# Altium footprint library Connector_Phoenix_MC.PcbLib: 180 footprints (part 2 of 12)
Each footprint in its own frame and in the unit in brackets; x right, y up, seen from the top. Pads: shape width x height; smd on the part's side, far side on the other; paste and mask are expansions set on the pad; w line width, h text height; cw(c..) or ccw(c..) is an arc to the next point about the centre after c.
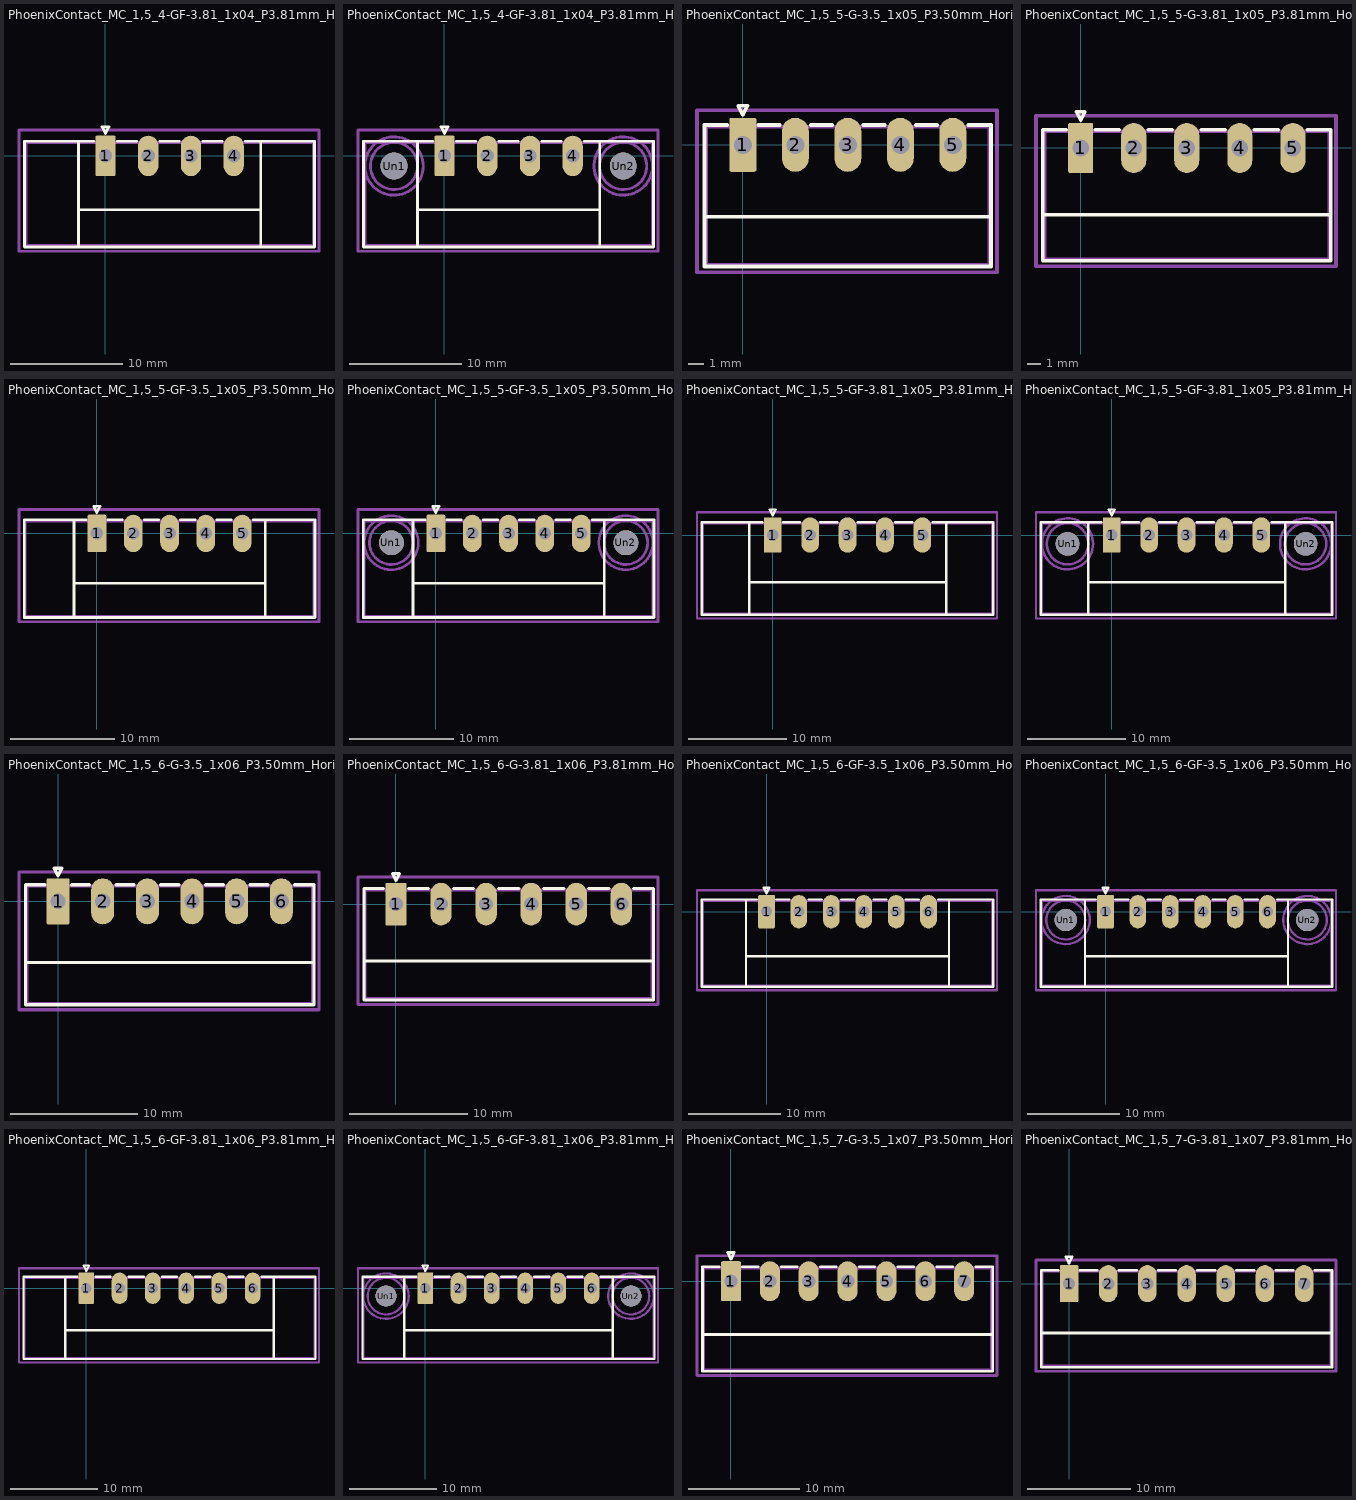
[diagram p1: the footprints below, top view; thin cyan lines are the x and y axes]

## PhoenixContact_MC_1,5_4-GF-3.81_1x04_P3.81mm_Horizontal_ThreadedFlange [mm]
pads (4):
  rrect14% 1.8x3.6 hole 1.2: 1(0,0)
  rrect100% 1.8x3.6 hole 1.2: 2(3.81,0) 3(7.62,0) 4(11.43,0)
F.SilkS:
  lines w0.254: -2.41,-8.11 -2.41,1.31 ; -2.41,-4.8 13.84,-4.8 ; -1.05,1.31 -7.21,1.31 -7.21,-8.11 18.64,-8.11 18.64,1.31 12.48,1.31 ; 1.05,1.31 2.76,1.31 ; 4.86,1.31 6.57,1.31 ; 8.67,1.31 10.38,1.31 ; 13.84,-8.11 13.84,1.31 ; -0.3,2.6 0,2 0.3,2.6 -0.3,2.6
Top Assembly:
  lines w0.254: -0.8,1.2 0,0 0.8,1.2 ; -7.1,-8 18.53,-8 18.53,1.2 -7.1,1.2 -7.1,-8
  text "'.Designator'" at 1.673,-0.34 h1
Top Courtyard:
  lines w0.254: -7.71,-8.5 19.03,-8.5 19.03,2.3 -7.71,2.3 -7.71,-8.5
Top Designator:
  text ".Designator" at -1.958,-3.458 h1.52

## PhoenixContact_MC_1,5_4-GF-3.81_1x04_P3.81mm_Horizontal_ThreadedFlange_MountHole [mm]
pads (6):
  rrect14% 1.8x3.6 hole 1.2: 1(0,0)
  rrect100% 1.8x3.6 hole 1.2: 2(3.81,0) 3(7.62,0) 4(11.43,0)
  round 2.4 hole 2.4: Un1(-4.5,-0.9) Un2(15.93,-0.9)
F.SilkS:
  lines w0.254: -2.41,-8.11 -2.41,1.31 ; -2.41,-4.8 13.84,-4.8 ; -1.05,1.31 -7.21,1.31 -7.21,-8.11 18.64,-8.11 18.64,1.31 12.48,1.31 ; 1.05,1.31 2.76,1.31 ; 4.86,1.31 6.57,1.31 ; 8.67,1.31 10.38,1.31 ; 13.84,-8.11 13.84,1.31 ; -0.3,2.6 0,2 0.3,2.6 -0.3,2.6
B.SilkS:
  circle w0.254: c15.93,-0.9 r2.21
  circle w0.254: c-4.5,-0.9 r2.21
Top Assembly:
  lines w0.254: -0.8,1.2 0,0 0.8,1.2 ; -7.1,-8 18.53,-8 18.53,1.2 -7.1,1.2 -7.1,-8
  text "'.Designator'" at 1.673,-0.34 h1
Bottom Assembly:
  circle w0.254: c15.93,-0.9 r2.1
  circle w0.254: c-4.5,-0.9 r2.1
Top Courtyard:
  lines w0.254: -7.71,-8.5 19.03,-8.5 19.03,2.3 -7.71,2.3 -7.71,-8.5
Bottom Courtyard:
  circle w0.254: c15.93,-0.9 r2.6
  circle w0.254: c-4.5,-0.9 r2.6
Top Designator:
  text ".Designator" at -1.958,-3.458 h1.52

## PhoenixContact_MC_1,5_5-G-3.5_1x05_P3.50mm_Horizontal [mm]
pads (5):
  rrect14% 1.8x3.6 hole 1.2: 1(0,0)
  rrect100% 1.8x3.6 hole 1.2: 2(3.5,0) 3(7,0) 4(10.5,0) 5(14,0)
F.SilkS:
  lines w0.254: -2.56,-4.8 16.56,-4.8 ; -1.05,1.31 -2.56,1.31 -2.56,-8.11 16.56,-8.11 16.56,1.31 15.05,1.31 ; 1.05,1.31 2.45,1.31 ; 4.55,1.31 5.95,1.31 ; 8.05,1.31 9.45,1.31 ; 11.55,1.31 12.95,1.31 ; -0.3,2.6 0,2 0.3,2.6 -0.3,2.6
Top Assembly:
  lines w0.254: -0.8,1.2 0,0 0.8,1.2 ; -2.45,-8 16.45,-8 16.45,1.2 -2.45,1.2 -2.45,-8
  text "'.Designator'" at 2.953,-0.34 h1
Top Courtyard:
  lines w0.254: -3.06,-8.5 16.95,-8.5 16.95,2.3 -3.06,2.3 -3.06,-8.5
Top Designator:
  text ".Designator" at -0.673,-3.458 h1.52

## PhoenixContact_MC_1,5_5-G-3.81_1x05_P3.81mm_Horizontal [mm]
pads (5):
  rrect14% 1.8x3.6 hole 1.2: 1(0,0)
  rrect100% 1.8x3.6 hole 1.2: 2(3.81,0) 3(7.62,0) 4(11.43,0) 5(15.24,0)
F.SilkS:
  lines w0.254: -2.71,-4.8 17.95,-4.8 ; -1.05,1.31 -2.71,1.31 -2.71,-8.11 17.95,-8.11 17.95,1.31 16.29,1.31 ; 1.05,1.31 2.76,1.31 ; 4.86,1.31 6.57,1.31 ; 8.67,1.31 10.38,1.31 ; 12.48,1.31 14.19,1.31 ; -0.3,2.6 0,2 0.3,2.6 -0.3,2.6
Top Assembly:
  lines w0.254: -0.8,1.2 0,0 0.8,1.2 ; -2.6,-8 17.84,-8 17.84,1.2 -2.6,1.2 -2.6,-8
  text "'.Designator'" at 3.573,-0.34 h1
Top Courtyard:
  lines w0.254: -3.21,-8.5 18.34,-8.5 18.34,2.3 -3.21,2.3 -3.21,-8.5
Top Designator:
  text ".Designator" at -0.053,-3.458 h1.52

## PhoenixContact_MC_1,5_5-GF-3.5_1x05_P3.50mm_Horizontal_ThreadedFlange [mm]
pads (5):
  rrect14% 1.8x3.6 hole 1.2: 1(0,0)
  rrect100% 1.8x3.6 hole 1.2: 2(3.5,0) 3(7,0) 4(10.5,0) 5(14,0)
F.SilkS:
  lines w0.254: -2.21,-8.11 -2.21,1.31 ; -2.21,-4.8 16.21,-4.8 ; -1.05,1.31 -7.01,1.31 -7.01,-8.11 21.01,-8.11 21.01,1.31 15.05,1.31 ; 1.05,1.31 2.45,1.31 ; 4.55,1.31 5.95,1.31 ; 8.05,1.31 9.45,1.31 ; 11.55,1.31 12.95,1.31 ; 16.21,-8.11 16.21,1.31 ; -0.3,2.6 0,2 0.3,2.6 -0.3,2.6
Top Assembly:
  lines w0.254: -0.8,1.2 0,0 0.8,1.2 ; -6.9,-8 20.9,-8 20.9,1.2 -6.9,1.2 -6.9,-8
  text "'.Designator'" at 2.953,-0.34 h1
Top Courtyard:
  lines w0.254: -7.51,-8.5 21.4,-8.5 21.4,2.3 -7.51,2.3 -7.51,-8.5
Top Designator:
  text ".Designator" at -0.673,-3.458 h1.52

## PhoenixContact_MC_1,5_5-GF-3.5_1x05_P3.50mm_Horizontal_ThreadedFlange_MountHole [mm]
pads (7):
  rrect14% 1.8x3.6 hole 1.2: 1(0,0)
  rrect100% 1.8x3.6 hole 1.2: 2(3.5,0) 3(7,0) 4(10.5,0) 5(14,0)
  round 2.4 hole 2.4: Un1(-4.3,-0.9) Un2(18.3,-0.9)
F.SilkS:
  lines w0.254: -2.21,-8.11 -2.21,1.31 ; -2.21,-4.8 16.21,-4.8 ; -1.05,1.31 -7.01,1.31 -7.01,-8.11 21.01,-8.11 21.01,1.31 15.05,1.31 ; 1.05,1.31 2.45,1.31 ; 4.55,1.31 5.95,1.31 ; 8.05,1.31 9.45,1.31 ; 11.55,1.31 12.95,1.31 ; 16.21,-8.11 16.21,1.31 ; -0.3,2.6 0,2 0.3,2.6 -0.3,2.6
B.SilkS:
  circle w0.254: c18.3,-0.9 r2.21
  circle w0.254: c-4.3,-0.9 r2.21
Top Assembly:
  lines w0.254: -0.8,1.2 0,0 0.8,1.2 ; -6.9,-8 20.9,-8 20.9,1.2 -6.9,1.2 -6.9,-8
  text "'.Designator'" at 2.953,-0.34 h1
Bottom Assembly:
  circle w0.254: c18.3,-0.9 r2.1
  circle w0.254: c-4.3,-0.9 r2.1
Top Courtyard:
  lines w0.254: -7.51,-8.5 21.4,-8.5 21.4,2.3 -7.51,2.3 -7.51,-8.5
Bottom Courtyard:
  circle w0.254: c18.3,-0.9 r2.6
  circle w0.254: c-4.3,-0.9 r2.6
Top Designator:
  text ".Designator" at -0.673,-3.458 h1.52

## PhoenixContact_MC_1,5_5-GF-3.81_1x05_P3.81mm_Horizontal_ThreadedFlange [mm]
pads (5):
  rrect14% 1.8x3.6 hole 1.2: 1(0,0)
  rrect100% 1.8x3.6 hole 1.2: 2(3.81,0) 3(7.62,0) 4(11.43,0) 5(15.24,0)
F.SilkS:
  lines w0.254: -2.41,-8.11 -2.41,1.31 ; -2.41,-4.8 17.65,-4.8 ; -1.05,1.31 -7.21,1.31 -7.21,-8.11 22.45,-8.11 22.45,1.31 16.29,1.31 ; 1.05,1.31 2.76,1.31 ; 4.86,1.31 6.57,1.31 ; 8.67,1.31 10.38,1.31 ; 12.48,1.31 14.19,1.31 ; 17.65,-8.11 17.65,1.31 ; -0.3,2.6 0,2 0.3,2.6 -0.3,2.6
Top Assembly:
  lines w0.254: -0.8,1.2 0,0 0.8,1.2 ; -7.1,-8 22.34,-8 22.34,1.2 -7.1,1.2 -7.1,-8
  text "'.Designator'" at 3.573,-0.34 h1
Top Courtyard:
  lines w0.254: -7.71,-8.5 22.84,-8.5 22.84,2.3 -7.71,2.3 -7.71,-8.5
Top Designator:
  text ".Designator" at -0.053,-3.458 h1.52

## PhoenixContact_MC_1,5_5-GF-3.81_1x05_P3.81mm_Horizontal_ThreadedFlange_MountHole [mm]
pads (7):
  rrect14% 1.8x3.6 hole 1.2: 1(0,0)
  rrect100% 1.8x3.6 hole 1.2: 2(3.81,0) 3(7.62,0) 4(11.43,0) 5(15.24,0)
  round 2.4 hole 2.4: Un1(-4.5,-0.9) Un2(19.74,-0.9)
F.SilkS:
  lines w0.254: -2.41,-8.11 -2.41,1.31 ; -2.41,-4.8 17.65,-4.8 ; -1.05,1.31 -7.21,1.31 -7.21,-8.11 22.45,-8.11 22.45,1.31 16.29,1.31 ; 1.05,1.31 2.76,1.31 ; 4.86,1.31 6.57,1.31 ; 8.67,1.31 10.38,1.31 ; 12.48,1.31 14.19,1.31 ; 17.65,-8.11 17.65,1.31 ; -0.3,2.6 0,2 0.3,2.6 -0.3,2.6
B.SilkS:
  circle w0.254: c19.74,-0.9 r2.21
  circle w0.254: c-4.5,-0.9 r2.21
Top Assembly:
  lines w0.254: -0.8,1.2 0,0 0.8,1.2 ; -7.1,-8 22.34,-8 22.34,1.2 -7.1,1.2 -7.1,-8
  text "'.Designator'" at 3.573,-0.34 h1
Bottom Assembly:
  circle w0.254: c19.74,-0.9 r2.1
  circle w0.254: c-4.5,-0.9 r2.1
Top Courtyard:
  lines w0.254: -7.71,-8.5 22.84,-8.5 22.84,2.3 -7.71,2.3 -7.71,-8.5
Bottom Courtyard:
  circle w0.254: c19.74,-0.9 r2.6
  circle w0.254: c-4.5,-0.9 r2.6
Top Designator:
  text ".Designator" at -0.053,-3.458 h1.52

## PhoenixContact_MC_1,5_6-G-3.5_1x06_P3.50mm_Horizontal [mm]
pads (6):
  rrect14% 1.8x3.6 hole 1.2: 1(0,0)
  rrect100% 1.8x3.6 hole 1.2: 2(3.5,0) 3(7,0) 4(10.5,0) 5(14,0) 6(17.5,0)
F.SilkS:
  lines w0.254: -2.56,-4.8 20.06,-4.8 ; -1.05,1.31 -2.56,1.31 -2.56,-8.11 20.06,-8.11 20.06,1.31 18.55,1.31 ; 1.05,1.31 2.45,1.31 ; 4.55,1.31 5.95,1.31 ; 8.05,1.31 9.45,1.31 ; 11.55,1.31 12.95,1.31 ; 15.05,1.31 16.45,1.31 ; -0.3,2.6 0,2 0.3,2.6 -0.3,2.6
Top Assembly:
  lines w0.254: -0.8,1.2 0,0 0.8,1.2 ; -2.45,-8 19.95,-8 19.95,1.2 -2.45,1.2 -2.45,-8
  text "'.Designator'" at 4.703,-0.34 h1
Top Courtyard:
  lines w0.254: -3.06,-8.5 20.45,-8.5 20.45,2.3 -3.06,2.3 -3.06,-8.5
Top Designator:
  text ".Designator" at 1.077,-3.458 h1.52

## PhoenixContact_MC_1,5_6-G-3.81_1x06_P3.81mm_Horizontal [mm]
pads (6):
  rrect14% 1.8x3.6 hole 1.2: 1(0,0)
  rrect100% 1.8x3.6 hole 1.2: 2(3.81,0) 3(7.62,0) 4(11.43,0) 5(15.24,0) 6(19.05,0)
F.SilkS:
  lines w0.254: -2.71,-4.8 21.76,-4.8 ; -1.05,1.31 -2.71,1.31 -2.71,-8.11 21.76,-8.11 21.76,1.31 20.1,1.31 ; 1.05,1.31 2.76,1.31 ; 4.86,1.31 6.57,1.31 ; 8.67,1.31 10.38,1.31 ; 12.48,1.31 14.19,1.31 ; 16.29,1.31 18,1.31 ; -0.3,2.6 0,2 0.3,2.6 -0.3,2.6
Top Assembly:
  lines w0.254: -0.8,1.2 0,0 0.8,1.2 ; -2.6,-8 21.65,-8 21.65,1.2 -2.6,1.2 -2.6,-8
  text "'.Designator'" at 5.473,-0.34 h1
Top Courtyard:
  lines w0.254: -3.21,-8.5 22.15,-8.5 22.15,2.3 -3.21,2.3 -3.21,-8.5
Top Designator:
  text ".Designator" at 1.852,-3.458 h1.52

## PhoenixContact_MC_1,5_6-GF-3.5_1x06_P3.50mm_Horizontal_ThreadedFlange [mm]
pads (6):
  rrect14% 1.8x3.6 hole 1.2: 1(0,0)
  rrect100% 1.8x3.6 hole 1.2: 2(3.5,0) 3(7,0) 4(10.5,0) 5(14,0) 6(17.5,0)
F.SilkS:
  lines w0.254: -2.21,-8.11 -2.21,1.31 ; -2.21,-4.8 19.71,-4.8 ; -1.05,1.31 -7.01,1.31 -7.01,-8.11 24.51,-8.11 24.51,1.31 18.55,1.31 ; 1.05,1.31 2.45,1.31 ; 4.55,1.31 5.95,1.31 ; 8.05,1.31 9.45,1.31 ; 11.55,1.31 12.95,1.31 ; 15.05,1.31 16.45,1.31 ; 19.71,-8.11 19.71,1.31 ; -0.3,2.6 0,2 0.3,2.6 -0.3,2.6
Top Assembly:
  lines w0.254: -0.8,1.2 0,0 0.8,1.2 ; -6.9,-8 24.4,-8 24.4,1.2 -6.9,1.2 -6.9,-8
  text "'.Designator'" at 4.703,-0.34 h1
Top Courtyard:
  lines w0.254: -7.51,-8.5 24.9,-8.5 24.9,2.3 -7.51,2.3 -7.51,-8.5
Top Designator:
  text ".Designator" at 1.077,-3.458 h1.52

## PhoenixContact_MC_1,5_6-GF-3.5_1x06_P3.50mm_Horizontal_ThreadedFlange_MountHole [mm]
pads (8):
  rrect14% 1.8x3.6 hole 1.2: 1(0,0)
  rrect100% 1.8x3.6 hole 1.2: 2(3.5,0) 3(7,0) 4(10.5,0) 5(14,0) 6(17.5,0)
  round 2.4 hole 2.4: Un1(-4.3,-0.9) Un2(21.8,-0.9)
F.SilkS:
  lines w0.254: -2.21,-8.11 -2.21,1.31 ; -2.21,-4.8 19.71,-4.8 ; -1.05,1.31 -7.01,1.31 -7.01,-8.11 24.51,-8.11 24.51,1.31 18.55,1.31 ; 1.05,1.31 2.45,1.31 ; 4.55,1.31 5.95,1.31 ; 8.05,1.31 9.45,1.31 ; 11.55,1.31 12.95,1.31 ; 15.05,1.31 16.45,1.31 ; 19.71,-8.11 19.71,1.31 ; -0.3,2.6 0,2 0.3,2.6 -0.3,2.6
B.SilkS:
  circle w0.254: c21.8,-0.9 r2.21
  circle w0.254: c-4.3,-0.9 r2.21
Top Assembly:
  lines w0.254: -0.8,1.2 0,0 0.8,1.2 ; -6.9,-8 24.4,-8 24.4,1.2 -6.9,1.2 -6.9,-8
  text "'.Designator'" at 4.703,-0.34 h1
Bottom Assembly:
  circle w0.254: c21.8,-0.9 r2.1
  circle w0.254: c-4.3,-0.9 r2.1
Top Courtyard:
  lines w0.254: -7.51,-8.5 24.9,-8.5 24.9,2.3 -7.51,2.3 -7.51,-8.5
Bottom Courtyard:
  circle w0.254: c21.8,-0.9 r2.6
  circle w0.254: c-4.3,-0.9 r2.6
Top Designator:
  text ".Designator" at 1.077,-3.458 h1.52

## PhoenixContact_MC_1,5_6-GF-3.81_1x06_P3.81mm_Horizontal_ThreadedFlange [mm]
pads (6):
  rrect14% 1.8x3.6 hole 1.2: 1(0,0)
  rrect100% 1.8x3.6 hole 1.2: 2(3.81,0) 3(7.62,0) 4(11.43,0) 5(15.24,0) 6(19.05,0)
F.SilkS:
  lines w0.254: -2.41,-8.11 -2.41,1.31 ; -2.41,-4.8 21.46,-4.8 ; -1.05,1.31 -7.21,1.31 -7.21,-8.11 26.26,-8.11 26.26,1.31 20.1,1.31 ; 1.05,1.31 2.76,1.31 ; 4.86,1.31 6.57,1.31 ; 8.67,1.31 10.38,1.31 ; 12.48,1.31 14.19,1.31 ; 16.29,1.31 18,1.31 ; 21.46,-8.11 21.46,1.31 ; -0.3,2.6 0,2 0.3,2.6 -0.3,2.6
Top Assembly:
  lines w0.254: -0.8,1.2 0,0 0.8,1.2 ; -7.1,-8 26.15,-8 26.15,1.2 -7.1,1.2 -7.1,-8
  text "'.Designator'" at 5.473,-0.34 h1
Top Courtyard:
  lines w0.254: -7.71,-8.5 26.65,-8.5 26.65,2.3 -7.71,2.3 -7.71,-8.5
Top Designator:
  text ".Designator" at 1.852,-3.458 h1.52

## PhoenixContact_MC_1,5_6-GF-3.81_1x06_P3.81mm_Horizontal_ThreadedFlange_MountHole [mm]
pads (8):
  rrect14% 1.8x3.6 hole 1.2: 1(0,0)
  rrect100% 1.8x3.6 hole 1.2: 2(3.81,0) 3(7.62,0) 4(11.43,0) 5(15.24,0) 6(19.05,0)
  round 2.4 hole 2.4: Un1(-4.5,-0.9) Un2(23.55,-0.9)
F.SilkS:
  lines w0.254: -2.41,-8.11 -2.41,1.31 ; -2.41,-4.8 21.46,-4.8 ; -1.05,1.31 -7.21,1.31 -7.21,-8.11 26.26,-8.11 26.26,1.31 20.1,1.31 ; 1.05,1.31 2.76,1.31 ; 4.86,1.31 6.57,1.31 ; 8.67,1.31 10.38,1.31 ; 12.48,1.31 14.19,1.31 ; 16.29,1.31 18,1.31 ; 21.46,-8.11 21.46,1.31 ; -0.3,2.6 0,2 0.3,2.6 -0.3,2.6
B.SilkS:
  circle w0.254: c23.55,-0.9 r2.21
  circle w0.254: c-4.5,-0.9 r2.21
Top Assembly:
  lines w0.254: -0.8,1.2 0,0 0.8,1.2 ; -7.1,-8 26.15,-8 26.15,1.2 -7.1,1.2 -7.1,-8
  text "'.Designator'" at 5.473,-0.34 h1
Bottom Assembly:
  circle w0.254: c23.55,-0.9 r2.1
  circle w0.254: c-4.5,-0.9 r2.1
Top Courtyard:
  lines w0.254: -7.71,-8.5 26.65,-8.5 26.65,2.3 -7.71,2.3 -7.71,-8.5
Bottom Courtyard:
  circle w0.254: c23.55,-0.9 r2.6
  circle w0.254: c-4.5,-0.9 r2.6
Top Designator:
  text ".Designator" at 1.852,-3.458 h1.52

## PhoenixContact_MC_1,5_7-G-3.5_1x07_P3.50mm_Horizontal [mm]
pads (7):
  rrect14% 1.8x3.6 hole 1.2: 1(0,0)
  rrect100% 1.8x3.6 hole 1.2: 2(3.5,0) 3(7,0) 4(10.5,0) 5(14,0) 6(17.5,0) 7(21,0)
F.SilkS:
  lines w0.254: -2.56,-4.8 23.56,-4.8 ; -1.05,1.31 -2.56,1.31 -2.56,-8.11 23.56,-8.11 23.56,1.31 22.05,1.31 ; 1.05,1.31 2.45,1.31 ; 4.55,1.31 5.95,1.31 ; 8.05,1.31 9.45,1.31 ; 11.55,1.31 12.95,1.31 ; 15.05,1.31 16.45,1.31 ; 18.55,1.31 19.95,1.31 ; -0.3,2.6 0,2 0.3,2.6 -0.3,2.6
Top Assembly:
  lines w0.254: -0.8,1.2 0,0 0.8,1.2 ; -2.45,-8 23.45,-8 23.45,1.2 -2.45,1.2 -2.45,-8
  text "'.Designator'" at 6.453,-0.34 h1
Top Courtyard:
  lines w0.254: -3.06,-8.5 23.95,-8.5 23.95,2.3 -3.06,2.3 -3.06,-8.5
Top Designator:
  text ".Designator" at 2.827,-3.458 h1.52

## PhoenixContact_MC_1,5_7-G-3.81_1x07_P3.81mm_Horizontal [mm]
pads (7):
  rrect14% 1.8x3.6 hole 1.2: 1(0,0)
  rrect100% 1.8x3.6 hole 1.2: 2(3.81,0) 3(7.62,0) 4(11.43,0) 5(15.24,0) 6(19.05,0) 7(22.86,0)
F.SilkS:
  lines w0.254: -2.71,-4.8 25.57,-4.8 ; -1.05,1.31 -2.71,1.31 -2.71,-8.11 25.57,-8.11 25.57,1.31 23.91,1.31 ; 1.05,1.31 2.76,1.31 ; 4.86,1.31 6.57,1.31 ; 8.67,1.31 10.38,1.31 ; 12.48,1.31 14.19,1.31 ; 16.29,1.31 18,1.31 ; 20.1,1.31 21.81,1.31 ; -0.3,2.6 0,2 0.3,2.6 -0.3,2.6
Top Assembly:
  lines w0.254: -0.8,1.2 0,0 0.8,1.2 ; -2.6,-8 25.46,-8 25.46,1.2 -2.6,1.2 -2.6,-8
  text "'.Designator'" at 7.383,-0.34 h1
Top Courtyard:
  lines w0.254: -3.21,-8.5 25.96,-8.5 25.96,2.3 -3.21,2.3 -3.21,-8.5
Top Designator:
  text ".Designator" at 3.757,-3.458 h1.52